# EAGLE library part HMC5883L (library HMC5883L)
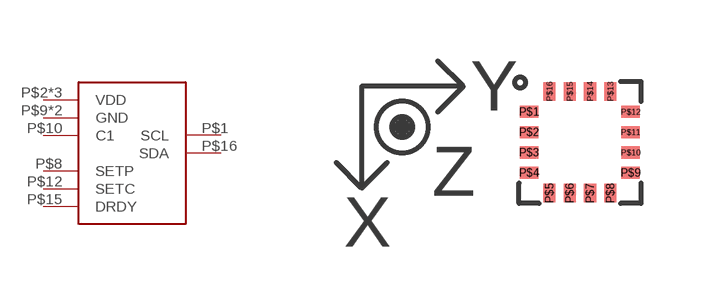
[diagram p0: symbol with the pads of HMC5883L; footprint HMC5883L]

Designator prefix -

## HMC5883L  [HMC5883L]
P$1  SCL
P$2  VDD
P$4  VDD
P$8  SETP
P$9  GND
P$10  C1
P$11  GND
P$12  SETC
P$13  VDD
P$15  DRDY
P$16  SDA

## Footprint HMC5883L (pad centres in mm)
smd 0.457 x 0.305: P$1 -1.27,0.762; P$2 -1.27,0.254; P$3 -1.27,-0.254; P$4 -1.27,-0.762; P$9 1.27,-0.762; P$10 1.27,-0.254; P$11 1.27,0.254; P$12 1.27,0.762
smd 0.305 x 0.457: P$5 -0.762,-1.27; P$6 -0.254,-1.27; P$7 0.254,-1.27; P$8 0.762,-1.27; P$13 0.762,1.27; P$14 0.254,1.27; P$15 -0.254,1.27; P$16 -0.762,1.27